# Altium schematic symbol library RMCF0805JT120R.SchLib: 1 symbol
Pins are listed as number, name and electrical type; pins without a type are passive.

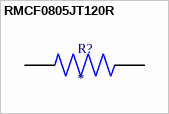
[diagram p0: symbol RMCF0805JT120R]

## RMCF0805JT120R
designator R?
MF: {'manufacturer': u'Stackpole Electronics Inc'}; MP: RMCF0805JT120R; Package: None; Price: None; Value: *; Availability: Unavailable
footprint RESC2012X65N
pins: 1, 2